# EAGLE library part ANALOGDEVICES-ADT7420 (library FaBo-Environment)
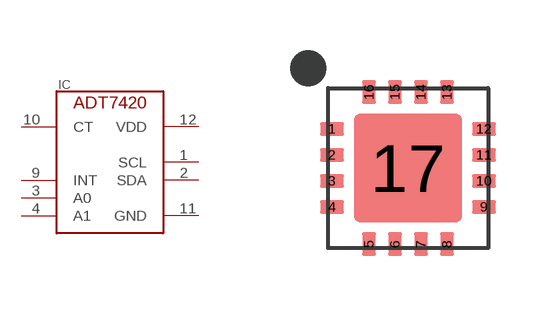
[diagram p18: symbol with the pads of ANALOGDEVICES-ADT7420; footprint ANALOGDEVICES-ADT7420]

Designator prefix IC

## ANALOGDEVICES-ADT7420  [ANALOGDEVICES-ADT7420]
1  SCL
2  SDA
3  A0
4  A1
9  INT
10  CT
11  GND
12  VDD

## Footprint ANALOGDEVICES-ADT7420 (pad centres in mm)
smd 0.6 x 0.35: 1 -1.9,0.975; 2 -1.9,0.325; 3 -1.9,-0.325; 4 -1.9,-0.975; 9 1.9,-0.975; 10 1.9,-0.325; 11 1.9,0.325; 12 1.9,0.975
smd 0.35 x 0.6: 5 -0.975,-1.9; 6 -0.325,-1.9; 7 0.325,-1.9; 8 0.975,-1.9; 13 0.975,1.9; 14 0.325,1.9; 15 -0.325,1.9; 16 -0.975,1.9
smd 2.7 x 2.7: 17 0,0